# Altium schematic symbol library SCH - POWER - LINEAR VREG - TI LP38841MR-ADJ.SchLib: 1 symbol
Pins are listed as number, name and electrical type; pins without a type are passive.

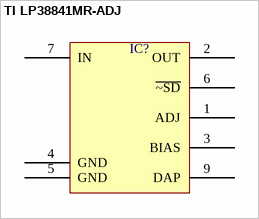
[diagram p0: symbol TI LP38841MR-ADJ]

## TI LP38841MR-ADJ
designator IC?  (value not drawn)
pins: 1 ADJ, 2 OUT, 3 BIAS, 4 GND, 5 GND, 6 ~{~SD}, 7 IN, 9 DAP